# Altium footprint library PcbLib8.PcbLib: 1 footprints
Each footprint in its own frame and in the unit in brackets; x right, y up, seen from the top. Pads: shape width x height; smd on the part's side, far side on the other; paste and mask are expansions set on the pad; w line width, h text height; cw(c..) or ccw(c..) is an arc to the next point about the centre after c.
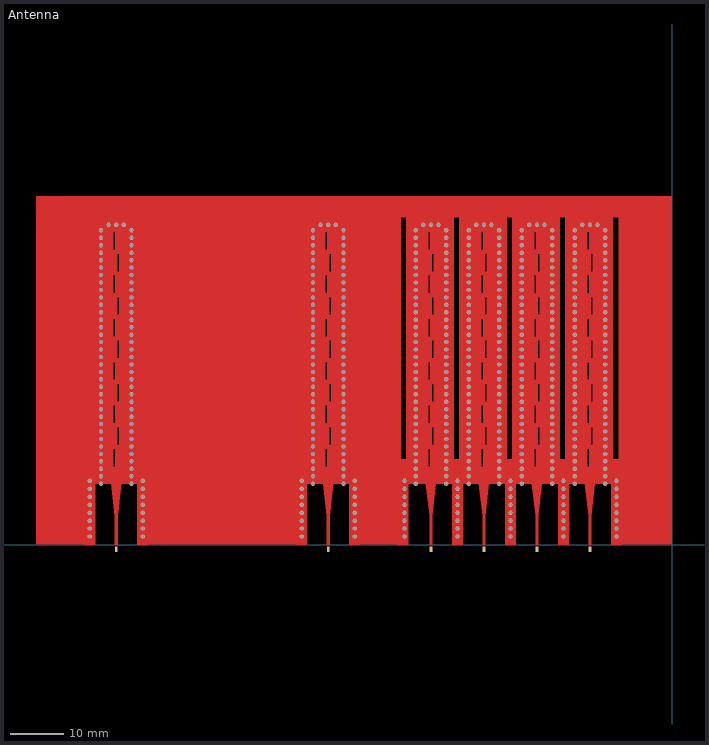
[diagram p0: the footprint, top view; thin cyan lines are the x and y axes]

## Antenna [mm] "24GHz"
pads (6):
  rect 0.5x1 smd: 1(-104.459,-0.9) 2(-64.634,-0.9) 3(-45.321,-0.9) 4(-35.365,-0.9) 5(-25.409,-0.9) 6(-15.453,-0.9)
via -50.299,1.5 diameter 0.8 hole 0.711
via -30.387,12 diameter 0.8 hole 0.711
via -20.431,12 diameter 0.8 hole 0.711
via -42.458,28.24 diameter 0.8 hole 0.711
via -48.183,22.64 diameter 0.8 hole 0.711
via -48.183,14.24 diameter 0.8 hole 0.711
via -42.458,57.64 diameter 0.8 hole 0.711
via -42.458,59.04 diameter 0.8 hole 0.711
via -43.889,60.1 diameter 0.8 hole 0.711
via -45.321,60.1 diameter 0.8 hole 0.711
via -46.752,60.1 diameter 0.8 hole 0.711
via -48.183,59.04 diameter 0.8 hole 0.711
via -48.183,57.64 diameter 0.8 hole 0.711
via -42.458,56.24 diameter 0.8 hole 0.711
via -42.458,54.84 diameter 0.8 hole 0.711
via -48.183,56.24 diameter 0.8 hole 0.711
via -48.183,54.84 diameter 0.8 hole 0.711
via -48.183,53.44 diameter 0.8 hole 0.711
via -48.183,52.04 diameter 0.8 hole 0.711
via -48.183,50.64 diameter 0.8 hole 0.711
via -48.183,49.24 diameter 0.8 hole 0.711
via -42.458,53.44 diameter 0.8 hole 0.711
via -42.458,52.04 diameter 0.8 hole 0.711
via -42.458,50.64 diameter 0.8 hole 0.711
via -42.458,49.24 diameter 0.8 hole 0.711
via -42.458,36.64 diameter 0.8 hole 0.711
via -42.458,38.04 diameter 0.8 hole 0.711
via -42.458,39.44 diameter 0.8 hole 0.711
via -42.458,40.84 diameter 0.8 hole 0.711
via -42.458,42.24 diameter 0.8 hole 0.711
via -42.458,43.64 diameter 0.8 hole 0.711
via -42.458,45.04 diameter 0.8 hole 0.711
via -42.458,46.44 diameter 0.8 hole 0.711
via -42.458,47.84 diameter 0.8 hole 0.711
via -48.183,47.84 diameter 0.8 hole 0.711
via -48.183,46.44 diameter 0.8 hole 0.711
via -48.183,45.04 diameter 0.8 hole 0.711
via -48.183,43.64 diameter 0.8 hole 0.711
via -48.183,42.24 diameter 0.8 hole 0.711
via -48.183,40.84 diameter 0.8 hole 0.711
via -48.183,39.44 diameter 0.8 hole 0.711
via -48.183,38.04 diameter 0.8 hole 0.711
via -48.183,36.64 diameter 0.8 hole 0.711
via -48.183,35.24 diameter 0.8 hole 0.711
via -48.183,33.84 diameter 0.8 hole 0.711
via -48.183,32.44 diameter 0.8 hole 0.711
via -48.183,31.04 diameter 0.8 hole 0.711
via -48.183,29.64 diameter 0.8 hole 0.711
via -48.183,28.24 diameter 0.8 hole 0.711
via -48.183,26.84 diameter 0.8 hole 0.711
via -42.458,35.24 diameter 0.8 hole 0.711
via -42.458,33.84 diameter 0.8 hole 0.711
via -42.458,32.44 diameter 0.8 hole 0.711
via -42.458,31.04 diameter 0.8 hole 0.711
via -42.458,29.64 diameter 0.8 hole 0.711
via -42.458,26.84 diameter 0.8 hole 0.711
via -42.458,25.44 diameter 0.8 hole 0.711
via -48.183,25.44 diameter 0.8 hole 0.711
via -48.183,24.04 diameter 0.8 hole 0.711
via -42.458,24.04 diameter 0.8 hole 0.711
via -42.458,22.64 diameter 0.8 hole 0.711
via -42.458,21.24 diameter 0.8 hole 0.711
via -48.183,21.24 diameter 0.8 hole 0.711
via -48.183,19.84 diameter 0.8 hole 0.711
via -42.458,19.84 diameter 0.8 hole 0.711
via -42.458,17.038 diameter 0.8 hole 0.711
via -42.458,18.44 diameter 0.8 hole 0.711
via -48.183,18.44 diameter 0.8 hole 0.711
via -48.183,17.038 diameter 0.8 hole 0.711
via -48.183,12.84 diameter 0.8 hole 0.711
via -48.183,15.64 diameter 0.8 hole 0.711
via -42.458,15.64 diameter 0.8 hole 0.711
via -42.458,14.24 diameter 0.8 hole 0.711
via -42.458,12.84 diameter 0.8 hole 0.711
via -42.458,11.44 diameter 0.8 hole 0.711
via -48.183,11.44 diameter 0.8 hole 0.711
via -50.299,12 diameter 0.8 hole 0.711
via -50.299,10.5 diameter 0.8 hole 0.711
via -50.299,9 diameter 0.8 hole 0.711
via -50.299,7.5 diameter 0.8 hole 0.711
via -50.299,6 diameter 0.8 hole 0.711
via -50.299,4.5 diameter 0.8 hole 0.711
via -50.299,3 diameter 0.8 hole 0.711
via -32.502,28.24 diameter 0.8 hole 0.711
via -38.227,22.64 diameter 0.8 hole 0.711
via -38.227,14.24 diameter 0.8 hole 0.711
via -32.502,57.64 diameter 0.8 hole 0.711
via -32.502,59.04 diameter 0.8 hole 0.711
via -33.933,60.1 diameter 0.8 hole 0.711
via -35.365,60.1 diameter 0.8 hole 0.711
via -36.796,60.1 diameter 0.8 hole 0.711
via -38.227,59.04 diameter 0.8 hole 0.711
via -38.227,57.64 diameter 0.8 hole 0.711
via -32.502,56.24 diameter 0.8 hole 0.711
via -32.502,54.84 diameter 0.8 hole 0.711
via -38.227,56.24 diameter 0.8 hole 0.711
via -38.227,54.84 diameter 0.8 hole 0.711
via -38.227,53.44 diameter 0.8 hole 0.711
via -38.227,52.04 diameter 0.8 hole 0.711
via -38.227,50.64 diameter 0.8 hole 0.711
via -38.227,49.24 diameter 0.8 hole 0.711
via -32.502,53.44 diameter 0.8 hole 0.711
via -32.502,52.04 diameter 0.8 hole 0.711
via -32.502,50.64 diameter 0.8 hole 0.711
via -32.502,49.24 diameter 0.8 hole 0.711
via -32.502,36.64 diameter 0.8 hole 0.711
via -32.502,38.04 diameter 0.8 hole 0.711
via -32.502,39.44 diameter 0.8 hole 0.711
via -32.502,40.84 diameter 0.8 hole 0.711
via -32.502,42.24 diameter 0.8 hole 0.711
via -32.502,43.64 diameter 0.8 hole 0.711
via -32.502,45.04 diameter 0.8 hole 0.711
via -32.502,46.44 diameter 0.8 hole 0.711
via -32.502,47.84 diameter 0.8 hole 0.711
via -38.227,47.84 diameter 0.8 hole 0.711
via -38.227,46.44 diameter 0.8 hole 0.711
via -38.227,45.04 diameter 0.8 hole 0.711
via -38.227,43.64 diameter 0.8 hole 0.711
via -38.227,42.24 diameter 0.8 hole 0.711
via -38.227,40.84 diameter 0.8 hole 0.711
via -38.227,39.44 diameter 0.8 hole 0.711
via -38.227,38.04 diameter 0.8 hole 0.711
via -38.227,36.64 diameter 0.8 hole 0.711
via -38.227,35.24 diameter 0.8 hole 0.711
via -38.227,33.84 diameter 0.8 hole 0.711
via -38.227,32.44 diameter 0.8 hole 0.711
via -38.227,31.04 diameter 0.8 hole 0.711
via -38.227,29.64 diameter 0.8 hole 0.711
via -38.227,28.24 diameter 0.8 hole 0.711
via -38.227,26.84 diameter 0.8 hole 0.711
via -32.502,35.24 diameter 0.8 hole 0.711
via -32.502,33.84 diameter 0.8 hole 0.711
via -32.502,32.44 diameter 0.8 hole 0.711
via -32.502,31.04 diameter 0.8 hole 0.711
via -32.502,29.64 diameter 0.8 hole 0.711
via -32.502,26.84 diameter 0.8 hole 0.711
via -32.502,25.44 diameter 0.8 hole 0.711
via -38.227,25.44 diameter 0.8 hole 0.711
via -38.227,24.04 diameter 0.8 hole 0.711
via -32.502,24.04 diameter 0.8 hole 0.711
via -32.502,22.64 diameter 0.8 hole 0.711
via -32.502,21.24 diameter 0.8 hole 0.711
via -38.227,21.24 diameter 0.8 hole 0.711
via -38.227,19.84 diameter 0.8 hole 0.711
via -32.502,19.84 diameter 0.8 hole 0.711
via -32.502,17.038 diameter 0.8 hole 0.711
via -32.502,18.44 diameter 0.8 hole 0.711
via -38.227,18.44 diameter 0.8 hole 0.711
via -38.227,17.038 diameter 0.8 hole 0.711
via -38.227,12.84 diameter 0.8 hole 0.711
via -38.227,15.64 diameter 0.8 hole 0.711
via -32.502,15.64 diameter 0.8 hole 0.711
via -32.502,14.24 diameter 0.8 hole 0.711
via -32.502,12.84 diameter 0.8 hole 0.711
via -32.502,11.44 diameter 0.8 hole 0.711
via -38.227,11.44 diameter 0.8 hole 0.711
via -40.343,10.5 diameter 0.8 hole 0.711
via -40.343,9 diameter 0.8 hole 0.711
via -40.343,7.5 diameter 0.8 hole 0.711
via -40.343,6 diameter 0.8 hole 0.711
via -40.343,4.5 diameter 0.8 hole 0.711
via -40.343,3 diameter 0.8 hole 0.711
via -40.343,1.5 diameter 0.8 hole 0.711
via -22.546,28.24 diameter 0.8 hole 0.711
via -28.271,22.64 diameter 0.8 hole 0.711
via -28.271,14.24 diameter 0.8 hole 0.711
via -22.546,57.64 diameter 0.8 hole 0.711
via -22.546,59.04 diameter 0.8 hole 0.711
via -23.977,60.1 diameter 0.8 hole 0.711
via -25.409,60.1 diameter 0.8 hole 0.711
via -26.84,60.1 diameter 0.8 hole 0.711
via -28.271,59.04 diameter 0.8 hole 0.711
via -28.271,57.64 diameter 0.8 hole 0.711
via -22.546,56.24 diameter 0.8 hole 0.711
via -22.546,54.84 diameter 0.8 hole 0.711
via -28.271,56.24 diameter 0.8 hole 0.711
via -28.271,54.84 diameter 0.8 hole 0.711
via -28.271,53.44 diameter 0.8 hole 0.711
via -28.271,52.04 diameter 0.8 hole 0.711
via -28.271,50.64 diameter 0.8 hole 0.711
via -28.271,49.24 diameter 0.8 hole 0.711
via -22.546,53.44 diameter 0.8 hole 0.711
via -22.546,52.04 diameter 0.8 hole 0.711
via -22.546,50.64 diameter 0.8 hole 0.711
via -22.546,49.24 diameter 0.8 hole 0.711
via -22.546,36.64 diameter 0.8 hole 0.711
via -22.546,38.04 diameter 0.8 hole 0.711
via -22.546,39.44 diameter 0.8 hole 0.711
via -22.546,40.84 diameter 0.8 hole 0.711
via -22.546,42.24 diameter 0.8 hole 0.711
via -22.546,43.64 diameter 0.8 hole 0.711
via -22.546,45.04 diameter 0.8 hole 0.711
via -22.546,46.44 diameter 0.8 hole 0.711
via -22.546,47.84 diameter 0.8 hole 0.711
via -28.271,47.84 diameter 0.8 hole 0.711
via -28.271,46.44 diameter 0.8 hole 0.711
via -28.271,45.04 diameter 0.8 hole 0.711
via -28.271,43.64 diameter 0.8 hole 0.711
via -28.271,42.24 diameter 0.8 hole 0.711
via -28.271,40.84 diameter 0.8 hole 0.711
via -28.271,39.44 diameter 0.8 hole 0.711
via -28.271,38.04 diameter 0.8 hole 0.711
via -28.271,36.64 diameter 0.8 hole 0.711
via -28.271,35.24 diameter 0.8 hole 0.711
via -28.271,33.84 diameter 0.8 hole 0.711
via -28.271,32.44 diameter 0.8 hole 0.711
via -28.271,31.04 diameter 0.8 hole 0.711
via -28.271,29.64 diameter 0.8 hole 0.711
via -28.271,28.24 diameter 0.8 hole 0.711
via -28.271,26.84 diameter 0.8 hole 0.711
via -22.546,35.24 diameter 0.8 hole 0.711
via -22.546,33.84 diameter 0.8 hole 0.711
via -22.546,32.44 diameter 0.8 hole 0.711
via -22.546,31.04 diameter 0.8 hole 0.711
via -22.546,29.64 diameter 0.8 hole 0.711
via -22.546,26.84 diameter 0.8 hole 0.711
via -22.546,25.44 diameter 0.8 hole 0.711
via -28.271,25.44 diameter 0.8 hole 0.711
via -28.271,24.04 diameter 0.8 hole 0.711
via -22.546,24.04 diameter 0.8 hole 0.711
via -22.546,22.64 diameter 0.8 hole 0.711
via -22.546,21.24 diameter 0.8 hole 0.711
via -28.271,21.24 diameter 0.8 hole 0.711
via -28.271,19.84 diameter 0.8 hole 0.711
via -22.546,19.84 diameter 0.8 hole 0.711
via -22.546,17.038 diameter 0.8 hole 0.711
via -22.546,18.44 diameter 0.8 hole 0.711
via -28.271,18.44 diameter 0.8 hole 0.711
via -28.271,17.038 diameter 0.8 hole 0.711
via -28.271,12.84 diameter 0.8 hole 0.711
via -28.271,15.64 diameter 0.8 hole 0.711
via -22.546,15.64 diameter 0.8 hole 0.711
via -22.546,14.24 diameter 0.8 hole 0.711
via -22.546,12.84 diameter 0.8 hole 0.711
via -22.546,11.44 diameter 0.8 hole 0.711
via -28.271,11.44 diameter 0.8 hole 0.711
via -30.387,10.5 diameter 0.8 hole 0.711
via -30.387,9 diameter 0.8 hole 0.711
via -30.387,7.5 diameter 0.8 hole 0.711
via -30.387,6 diameter 0.8 hole 0.711
via -30.387,4.5 diameter 0.8 hole 0.711
via -30.387,3 diameter 0.8 hole 0.711
via -30.387,1.5 diameter 0.8 hole 0.711
via -12.59,28.24 diameter 0.8 hole 0.711
via -18.315,22.64 diameter 0.8 hole 0.711
via -18.315,14.24 diameter 0.8 hole 0.711
via -10.475,7.5 diameter 0.8 hole 0.711
via -12.59,57.64 diameter 0.8 hole 0.711
via -12.59,59.04 diameter 0.8 hole 0.711
via -14.021,60.1 diameter 0.8 hole 0.711
via -15.453,60.1 diameter 0.8 hole 0.711
via -16.884,60.1 diameter 0.8 hole 0.711
via -18.315,59.04 diameter 0.8 hole 0.711
via -18.315,57.64 diameter 0.8 hole 0.711
via -12.59,56.24 diameter 0.8 hole 0.711
via -12.59,54.84 diameter 0.8 hole 0.711
via -18.315,56.24 diameter 0.8 hole 0.711
via -18.315,54.84 diameter 0.8 hole 0.711
via -18.315,53.44 diameter 0.8 hole 0.711
via -18.315,52.04 diameter 0.8 hole 0.711
via -18.315,50.64 diameter 0.8 hole 0.711
via -18.315,49.24 diameter 0.8 hole 0.711
via -12.59,53.44 diameter 0.8 hole 0.711
via -12.59,52.04 diameter 0.8 hole 0.711
via -12.59,50.64 diameter 0.8 hole 0.711
via -12.59,49.24 diameter 0.8 hole 0.711
via -12.59,36.64 diameter 0.8 hole 0.711
via -12.59,38.04 diameter 0.8 hole 0.711
via -12.59,39.44 diameter 0.8 hole 0.711
via -12.59,40.84 diameter 0.8 hole 0.711
via -12.59,42.24 diameter 0.8 hole 0.711
via -12.59,43.64 diameter 0.8 hole 0.711
via -12.59,45.04 diameter 0.8 hole 0.711
via -12.59,46.44 diameter 0.8 hole 0.711
via -12.59,47.84 diameter 0.8 hole 0.711
via -18.315,47.84 diameter 0.8 hole 0.711
via -18.315,46.44 diameter 0.8 hole 0.711
via -18.315,45.04 diameter 0.8 hole 0.711
via -18.315,43.64 diameter 0.8 hole 0.711
via -18.315,42.24 diameter 0.8 hole 0.711
via -18.315,40.84 diameter 0.8 hole 0.711
via -18.315,39.44 diameter 0.8 hole 0.711
via -18.315,38.04 diameter 0.8 hole 0.711
via -18.315,36.64 diameter 0.8 hole 0.711
via -18.315,35.24 diameter 0.8 hole 0.711
via -18.315,33.84 diameter 0.8 hole 0.711
via -18.315,32.44 diameter 0.8 hole 0.711
via -18.315,31.04 diameter 0.8 hole 0.711
via -18.315,29.64 diameter 0.8 hole 0.711
via -18.315,28.24 diameter 0.8 hole 0.711
via -18.315,26.84 diameter 0.8 hole 0.711
via -12.59,35.24 diameter 0.8 hole 0.711
via -12.59,33.84 diameter 0.8 hole 0.711
via -12.59,32.44 diameter 0.8 hole 0.711
via -12.59,31.04 diameter 0.8 hole 0.711
via -12.59,29.64 diameter 0.8 hole 0.711
via -12.59,26.84 diameter 0.8 hole 0.711
via -12.59,25.44 diameter 0.8 hole 0.711
via -18.315,25.44 diameter 0.8 hole 0.711
via -18.315,24.04 diameter 0.8 hole 0.711
via -12.59,24.04 diameter 0.8 hole 0.711
via -12.59,22.64 diameter 0.8 hole 0.711
via -12.59,21.24 diameter 0.8 hole 0.711
via -18.315,21.24 diameter 0.8 hole 0.711
via -18.315,19.84 diameter 0.8 hole 0.711
via -12.59,19.84 diameter 0.8 hole 0.711
via -12.59,17.038 diameter 0.8 hole 0.711
via -12.59,18.44 diameter 0.8 hole 0.711
via -18.315,18.44 diameter 0.8 hole 0.711
via -18.315,17.038 diameter 0.8 hole 0.711
via -18.315,12.84 diameter 0.8 hole 0.711
via -18.315,15.64 diameter 0.8 hole 0.711
via -12.59,15.64 diameter 0.8 hole 0.711
via -12.59,14.24 diameter 0.8 hole 0.711
via -12.59,12.84 diameter 0.8 hole 0.711
via -10.475,6 diameter 0.8 hole 0.711
via -10.475,9 diameter 0.8 hole 0.711
via -10.475,10.5 diameter 0.8 hole 0.711
via -10.475,12 diameter 0.8 hole 0.711
via -12.59,11.44 diameter 0.8 hole 0.711
via -18.315,11.44 diameter 0.8 hole 0.711
via -20.431,10.5 diameter 0.8 hole 0.711
via -20.431,9 diameter 0.8 hole 0.711
via -20.431,7.5 diameter 0.8 hole 0.711
via -20.431,6 diameter 0.8 hole 0.711
via -20.431,4.5 diameter 0.8 hole 0.711
via -20.431,3 diameter 0.8 hole 0.711
via -20.431,1.5 diameter 0.8 hole 0.711
via -10.475,4.5 diameter 0.8 hole 0.711
via -10.475,3 diameter 0.8 hole 0.711
via -10.475,1.5 diameter 0.8 hole 0.711
via -40.343,12 diameter 0.8 hole 0.711
via -59.656,12 diameter 0.8 hole 0.711
via -59.656,1.5 diameter 0.8 hole 0.711
via -59.656,3 diameter 0.8 hole 0.711
via -59.656,4.5 diameter 0.8 hole 0.711
via -59.656,6 diameter 0.8 hole 0.711
via -59.656,7.5 diameter 0.8 hole 0.711
via -59.656,9 diameter 0.8 hole 0.711
via -59.656,10.5 diameter 0.8 hole 0.711
via -69.612,3 diameter 0.8 hole 0.711
via -69.612,4.5 diameter 0.8 hole 0.711
via -69.612,6 diameter 0.8 hole 0.711
via -69.612,7.5 diameter 0.8 hole 0.711
via -69.612,9 diameter 0.8 hole 0.711
via -69.612,10.5 diameter 0.8 hole 0.711
via -69.612,12 diameter 0.8 hole 0.711
via -67.496,11.44 diameter 0.8 hole 0.711
via -61.771,11.44 diameter 0.8 hole 0.711
via -61.771,12.84 diameter 0.8 hole 0.711
via -61.771,14.24 diameter 0.8 hole 0.711
via -61.771,15.64 diameter 0.8 hole 0.711
via -67.496,15.64 diameter 0.8 hole 0.711
via -67.496,12.84 diameter 0.8 hole 0.711
via -67.496,17.038 diameter 0.8 hole 0.711
via -67.496,18.44 diameter 0.8 hole 0.711
via -61.771,18.44 diameter 0.8 hole 0.711
via -61.771,17.038 diameter 0.8 hole 0.711
via -61.771,19.84 diameter 0.8 hole 0.711
via -67.496,19.84 diameter 0.8 hole 0.711
via -67.496,21.24 diameter 0.8 hole 0.711
via -61.771,21.24 diameter 0.8 hole 0.711
via -61.771,22.64 diameter 0.8 hole 0.711
via -61.771,24.04 diameter 0.8 hole 0.711
via -67.496,24.04 diameter 0.8 hole 0.711
via -67.496,25.44 diameter 0.8 hole 0.711
via -61.771,25.44 diameter 0.8 hole 0.711
via -61.771,26.84 diameter 0.8 hole 0.711
via -61.771,29.64 diameter 0.8 hole 0.711
via -61.771,31.04 diameter 0.8 hole 0.711
via -61.771,32.44 diameter 0.8 hole 0.711
via -61.771,33.84 diameter 0.8 hole 0.711
via -61.771,35.24 diameter 0.8 hole 0.711
via -67.496,26.84 diameter 0.8 hole 0.711
via -67.496,28.24 diameter 0.8 hole 0.711
via -67.496,29.64 diameter 0.8 hole 0.711
via -67.496,31.04 diameter 0.8 hole 0.711
via -67.496,32.44 diameter 0.8 hole 0.711
via -67.496,33.84 diameter 0.8 hole 0.711
via -67.496,35.24 diameter 0.8 hole 0.711
via -67.496,36.64 diameter 0.8 hole 0.711
via -67.496,38.04 diameter 0.8 hole 0.711
via -67.496,39.44 diameter 0.8 hole 0.711
via -67.496,40.84 diameter 0.8 hole 0.711
via -67.496,42.24 diameter 0.8 hole 0.711
via -67.496,43.64 diameter 0.8 hole 0.711
via -67.496,45.04 diameter 0.8 hole 0.711
via -67.496,46.44 diameter 0.8 hole 0.711
via -67.496,47.84 diameter 0.8 hole 0.711
via -61.771,47.84 diameter 0.8 hole 0.711
via -61.771,46.44 diameter 0.8 hole 0.711
via -61.771,45.04 diameter 0.8 hole 0.711
via -61.771,43.64 diameter 0.8 hole 0.711
via -61.771,42.24 diameter 0.8 hole 0.711
via -61.771,40.84 diameter 0.8 hole 0.711
via -61.771,39.44 diameter 0.8 hole 0.711
via -61.771,38.04 diameter 0.8 hole 0.711
via -61.771,36.64 diameter 0.8 hole 0.711
via -61.771,49.24 diameter 0.8 hole 0.711
via -61.771,50.64 diameter 0.8 hole 0.711
via -61.771,52.04 diameter 0.8 hole 0.711
via -61.771,53.44 diameter 0.8 hole 0.711
via -67.496,49.24 diameter 0.8 hole 0.711
via -67.496,50.64 diameter 0.8 hole 0.711
via -67.496,52.04 diameter 0.8 hole 0.711
via -67.496,53.44 diameter 0.8 hole 0.711
via -67.496,54.84 diameter 0.8 hole 0.711
via -67.496,56.24 diameter 0.8 hole 0.711
via -61.771,54.84 diameter 0.8 hole 0.711
via -61.771,56.24 diameter 0.8 hole 0.711
via -67.496,57.64 diameter 0.8 hole 0.711
via -67.496,59.04 diameter 0.8 hole 0.711
via -66.065,60.1 diameter 0.8 hole 0.711
via -64.634,60.1 diameter 0.8 hole 0.711
via -63.202,60.1 diameter 0.8 hole 0.711
via -61.771,59.04 diameter 0.8 hole 0.711
via -61.771,57.64 diameter 0.8 hole 0.711
via -67.496,14.24 diameter 0.8 hole 0.711
via -67.496,22.64 diameter 0.8 hole 0.711
via -61.771,28.24 diameter 0.8 hole 0.711
via -69.612,1.5 diameter 0.8 hole 0.711
via -99.481,12 diameter 0.8 hole 0.711
via -99.481,1.5 diameter 0.8 hole 0.711
via -99.481,3 diameter 0.8 hole 0.711
via -99.481,4.5 diameter 0.8 hole 0.711
via -99.481,6 diameter 0.8 hole 0.711
via -99.481,7.5 diameter 0.8 hole 0.711
via -99.481,9 diameter 0.8 hole 0.711
via -99.481,10.5 diameter 0.8 hole 0.711
via -109.437,3 diameter 0.8 hole 0.711
via -109.437,4.5 diameter 0.8 hole 0.711
via -109.437,6 diameter 0.8 hole 0.711
via -109.437,7.5 diameter 0.8 hole 0.711
via -109.437,9 diameter 0.8 hole 0.711
via -109.437,10.5 diameter 0.8 hole 0.711
via -109.437,12 diameter 0.8 hole 0.711
via -107.321,11.44 diameter 0.8 hole 0.711
via -101.596,11.44 diameter 0.8 hole 0.711
via -101.596,12.84 diameter 0.8 hole 0.711
via -101.596,14.24 diameter 0.8 hole 0.711
via -101.596,15.64 diameter 0.8 hole 0.711
via -107.321,15.64 diameter 0.8 hole 0.711
via -107.321,12.84 diameter 0.8 hole 0.711
via -107.321,17.038 diameter 0.8 hole 0.711
via -107.321,18.44 diameter 0.8 hole 0.711
via -101.596,18.44 diameter 0.8 hole 0.711
via -101.596,17.038 diameter 0.8 hole 0.711
via -101.596,19.84 diameter 0.8 hole 0.711
via -107.321,19.84 diameter 0.8 hole 0.711
via -107.321,21.24 diameter 0.8 hole 0.711
via -101.596,21.24 diameter 0.8 hole 0.711
via -101.596,22.64 diameter 0.8 hole 0.711
via -101.596,24.04 diameter 0.8 hole 0.711
via -107.321,24.04 diameter 0.8 hole 0.711
via -107.321,25.44 diameter 0.8 hole 0.711
via -101.596,25.44 diameter 0.8 hole 0.711
via -101.596,26.84 diameter 0.8 hole 0.711
via -101.596,29.64 diameter 0.8 hole 0.711
via -101.596,31.04 diameter 0.8 hole 0.711
via -101.596,32.44 diameter 0.8 hole 0.711
via -101.596,33.84 diameter 0.8 hole 0.711
via -101.596,35.24 diameter 0.8 hole 0.711
via -107.321,26.84 diameter 0.8 hole 0.711
via -107.321,28.24 diameter 0.8 hole 0.711
via -107.321,29.64 diameter 0.8 hole 0.711
via -107.321,31.04 diameter 0.8 hole 0.711
via -107.321,32.44 diameter 0.8 hole 0.711
via -107.321,33.84 diameter 0.8 hole 0.711
via -107.321,35.24 diameter 0.8 hole 0.711
via -107.321,36.64 diameter 0.8 hole 0.711
via -107.321,38.04 diameter 0.8 hole 0.711
via -107.321,39.44 diameter 0.8 hole 0.711
via -107.321,40.84 diameter 0.8 hole 0.711
via -107.321,42.24 diameter 0.8 hole 0.711
via -107.321,43.64 diameter 0.8 hole 0.711
via -107.321,45.04 diameter 0.8 hole 0.711
via -107.321,46.44 diameter 0.8 hole 0.711
via -107.321,47.84 diameter 0.8 hole 0.711
via -101.596,47.84 diameter 0.8 hole 0.711
via -101.596,46.44 diameter 0.8 hole 0.711
via -101.596,45.04 diameter 0.8 hole 0.711
via -101.596,43.64 diameter 0.8 hole 0.711
via -101.596,42.24 diameter 0.8 hole 0.711
via -101.596,40.84 diameter 0.8 hole 0.711
via -101.596,39.44 diameter 0.8 hole 0.711
via -101.596,38.04 diameter 0.8 hole 0.711
via -101.596,36.64 diameter 0.8 hole 0.711
via -101.596,49.24 diameter 0.8 hole 0.711
via -101.596,50.64 diameter 0.8 hole 0.711
via -101.596,52.04 diameter 0.8 hole 0.711
via -101.596,53.44 diameter 0.8 hole 0.711
via -107.321,49.24 diameter 0.8 hole 0.711
via -107.321,50.64 diameter 0.8 hole 0.711
via -107.321,52.04 diameter 0.8 hole 0.711
via -107.321,53.44 diameter 0.8 hole 0.711
via -107.321,54.84 diameter 0.8 hole 0.711
via -107.321,56.24 diameter 0.8 hole 0.711
via -101.596,54.84 diameter 0.8 hole 0.711
via -101.596,56.24 diameter 0.8 hole 0.711
via -107.321,57.64 diameter 0.8 hole 0.711
via -107.321,59.04 diameter 0.8 hole 0.711
via -105.89,60.1 diameter 0.8 hole 0.711
via -104.459,60.1 diameter 0.8 hole 0.711
via -103.027,60.1 diameter 0.8 hole 0.711
via -101.596,59.04 diameter 0.8 hole 0.711
via -101.596,57.64 diameter 0.8 hole 0.711
via -107.321,14.24 diameter 0.8 hole 0.711
via -107.321,22.64 diameter 0.8 hole 0.711
via -101.596,28.24 diameter 0.8 hole 0.711
via -109.437,1.5 diameter 0.8 hole 0.711
Top Layer:
  rectangle: -74.05,60.65 -58.975,63.575
  rectangle: -15.623,58.73 -11.131,61.5
  rectangle: -20.087,58.73 -15.623,61.5
  rectangle: -119.562,0 -110.825,65.5
  rectangle: -49.955,61.5 -0.6,65.5
  rectangle: -8.575,11.4 -4.775,64.2
  rectangle: -11.475,0 -0.6,11.44
  rectangle: -11.475,11.44 -0.6,12.5
  rectangle: -10.131,13.35 0,63.95
  rectangle: -0.6,0 0,0.175
  rectangle: -8.6,0 0,65.5
  rectangle: -54.551,11.496 -50.955,20.025
  rectangle: -119.562,0 -108.437,65.5
  rectangle: -108.437,61.5 -40.999,65.5
  rectangle: -98.481,0 -69.268,61.5
  rectangle: -100.137,15.1 -89.3,61.5
  rectangle: -60.312,20.025 -50.955,61.5
  rectangle: -60.312,0 -51.611,20.025
  rectangle: -73.7,12.9 -66.325,60.275
  rectangle: -62.625,12.8 -57.275,61.325
  rectangle: -49.375,13.175 -47.55,63.3
  rectangle: -43.05,13.575 -41.625,61.15
  rectangle: -39.225,13 -37.025,62.25
  rectangle: -33.575,13.9 -31.575,63.25
  rectangle: -29.375,13.325 -27.075,62.15
  rectangle: -23.625,14 -21.525,63.1
  rectangle: -19.125,13.375 -17.2,62.525
  rectangle: -18.4,59.475 -13.1,62.525
  rectangle: -13.475,13 -11.6,61.9
  rectangle: -108.8,13.225 -106.2,62.7
  rectangle: -102.5,13.275 -99.625,63
  rectangle: -28.356,59.475 -23.056,62.525
  rectangle: -30.043,58.73 -25.579,61.5
  rectangle: -25.579,58.73 -21.087,61.5
  rectangle: -48.268,59.475 -42.968,62.525
  rectangle: -49.955,58.73 -45.491,61.5
  rectangle: -45.491,58.73 -40.999,61.5
  rectangle: -38.312,59.475 -33.012,62.525
  rectangle: -39.999,58.73 -35.535,61.5
  rectangle: -35.535,58.73 -31.043,61.5
  rectangle: -67.581,59.475 -62.281,62.525
  rectangle: -69.268,58.73 -64.804,61.5
  rectangle: -64.804,58.73 -60.312,61.5
  rectangle: -107.406,59.475 -102.106,62.525
  rectangle: -109.093,58.73 -104.629,61.5
  rectangle: -104.629,58.73 -100.137,61.5
  region: -15.203,0 -15.703,0 -15.703,5.4 -16.39,11.44 -19.743,11.44 -20.087,16 -20.087,61.5 -15.998,58.73 -15.998,14.655 -14.515,11.44 -15.203,5.4
  region: -15.203,0 -15.703,0 -15.703,5.4 -16.39,11.44 -15.998,14.655 -15.623,14.655 -15.623,18.005 -14.913,18.728 -14.913,22.078 -15.623,22.8 -15.623,26.15 -14.913,26.873 -14.913,30.222 -15.623,30.945 -15.623,34.295 -14.913,35.018 -14.913,38.368 -15.623,39.09 -15.623,42.44 -14.913,43.163 -14.913,46.513 -15.623,47.235 -15.623,50.585 -14.913,51.308 -14.913,54.658 -15.623,55.38 -15.623,58.73 -11.131,61.5 -11.131,16 -11.475,11.44 -14.515,11.44 -15.203,5.4
  region: -15.998,55.38 -15.998,50.585 -15.623,50.585 -15.623,47.235 -15.998,47.235 -15.998,42.44 -15.623,42.44 -15.623,39.09 -15.998,39.09 -15.998,34.295 -15.623,34.295 -15.623,30.945 -15.998,30.945 -15.998,26.15 -15.623,26.15 -15.623,22.8 -15.998,22.8 -15.998,18.005 -15.623,18.005 -15.623,14.655 -14.913,18.728 -15.288,18.728 -15.288,22.078 -14.913,22.078 -14.913,26.873 -15.288,26.873 -15.288,30.222 -14.913,30.222 -14.913,35.018 -15.288,35.018 -15.288,38.368 -14.913,38.368 -14.913,43.163 -15.288,43.163 -15.288,46.513 -14.913,46.513 -14.913,51.308 -15.288,51.308 -15.288,54.658 -14.913,54.658 -15.623,55.38
  region: -6.505,11.551 -6.566,11.44 -9.475,11.44 -9.475,0 -11.475,0 -11.475,11.44 -14.374,11.44 -14.431,11.553 -11.131,16 -9.325,16
  region: -54.581,11.551 -54.52,11.44 -51.611,11.44 -51.611,0 -49.611,0 -49.611,11.44 -46.712,11.44 -46.655,11.553 -49.955,16 -51.761,16
  region: -16.461,11.551 -16.522,11.44 -19.431,11.44 -19.431,0 -21.431,0 -21.431,11.44 -24.33,11.44 -24.387,11.553 -21.087,16 -19.281,16
  region: -26.417,11.551 -26.478,11.44 -29.387,11.44 -29.387,0 -31.387,0 -31.387,11.44 -34.286,11.44 -34.343,11.553 -31.043,16 -29.237,16
  region: -36.373,11.551 -36.434,11.44 -39.343,11.44 -39.343,0 -41.343,0 -41.343,11.44 -44.242,11.44 -44.299,11.553 -40.999,16 -39.193,16
  region: -55.686,11.551 -55.747,11.44 -58.656,11.44 -58.656,0 -60.656,0 -60.656,11.44 -63.555,11.44 -63.612,11.553 -60.312,16 -58.506,16
  region: -95.511,11.551 -95.572,11.44 -98.481,11.44 -98.481,0 -100.481,0 -100.481,11.44 -103.38,11.44 -103.437,11.553 -100.137,16 -98.331,16
  region: -113.407,11.551 -113.346,11.44 -110.437,11.44 -110.437,0 -108.437,0 -108.437,11.44 -105.538,11.44 -105.481,11.553 -108.781,16 -110.587,16
  region: -73.582,11.551 -73.521,11.44 -70.612,11.44 -70.612,0 -68.612,0 -68.612,11.44 -65.713,11.44 -65.656,11.553 -68.956,16 -70.762,16
  region: -25.954,55.38 -25.954,50.585 -25.579,50.585 -25.579,47.235 -25.954,47.235 -25.954,42.44 -25.579,42.44 -25.579,39.09 -25.954,39.09 -25.954,34.295 -25.579,34.295 -25.579,30.945 -25.954,30.945 -25.954,26.15 -25.579,26.15 -25.579,22.8 -25.954,22.8 -25.954,18.005 -25.579,18.005 -25.579,14.655 -24.869,18.728 -25.244,18.728 -25.244,22.078 -24.869,22.078 -24.869,26.873 -25.244,26.873 -25.244,30.222 -24.869,30.222 -24.869,35.018 -25.244,35.018 -25.244,38.368 -24.869,38.368 -24.869,43.163 -25.244,43.163 -25.244,46.513 -24.869,46.513 -24.869,51.308 -25.244,51.308 -25.244,54.658 -24.869,54.658 -25.579,55.38
  region: -25.159,0 -25.659,0 -25.659,5.4 -26.346,11.44 -25.954,14.655 -25.579,14.655 -25.579,18.005 -24.869,18.728 -24.869,22.078 -25.579,22.8 -25.579,26.15 -24.869,26.873 -24.869,30.222 -25.579,30.945 -25.579,34.295 -24.869,35.018 -24.869,38.368 -25.579,39.09 -25.579,42.44 -24.869,43.163 -24.869,46.513 -25.579,47.235 -25.579,50.585 -24.869,51.308 -24.869,54.658 -25.579,55.38 -25.579,58.73 -21.087,61.5 -21.087,16 -21.431,11.44 -24.471,11.44 -25.159,5.4
  region: -25.159,0 -25.659,0 -25.659,5.4 -26.346,11.44 -29.699,11.44 -30.043,16 -30.043,61.5 -25.954,58.73 -25.954,14.655 -24.471,11.44 -25.159,5.4
  region: -45.866,55.38 -45.866,50.585 -45.491,50.585 -45.491,47.235 -45.866,47.235 -45.866,42.44 -45.491,42.44 -45.491,39.09 -45.866,39.09 -45.866,34.295 -45.491,34.295 -45.491,30.945 -45.866,30.945 -45.866,26.15 -45.491,26.15 -45.491,22.8 -45.866,22.8 -45.866,18.005 -45.491,18.005 -45.491,14.655 -44.781,18.728 -45.156,18.728 -45.156,22.078 -44.781,22.078 -44.781,26.873 -45.156,26.873 -45.156,30.222 -44.781,30.222 -44.781,35.018 -45.156,35.018 -45.156,38.368 -44.781,38.368 -44.781,43.163 -45.156,43.163 -45.156,46.513 -44.781,46.513 -44.781,51.308 -45.156,51.308 -45.156,54.658 -44.781,54.658 -45.491,55.38
  region: -45.071,0 -45.571,0 -45.571,5.4 -46.258,11.44 -45.866,14.655 -45.491,14.655 -45.491,18.005 -44.781,18.728 -44.781,22.078 -45.491,22.8 -45.491,26.15 -44.781,26.873 -44.781,30.222 -45.491,30.945 -45.491,34.295 -44.781,35.018 -44.781,38.368 -45.491,39.09 -45.491,42.44 -44.781,43.163 -44.781,46.513 -45.491,47.235 -45.491,50.585 -44.781,51.308 -44.781,54.658 -45.491,55.38 -45.491,58.73 -40.999,61.5 -40.999,16 -41.343,11.44 -44.383,11.44 -45.071,5.4
  region: -45.071,0 -45.571,0 -45.571,5.4 -46.258,11.44 -49.611,11.44 -49.955,16 -49.955,61.5 -45.866,58.73 -45.866,14.655 -44.383,11.44 -45.071,5.4
  region: -35.91,55.38 -35.91,50.585 -35.535,50.585 -35.535,47.235 -35.91,47.235 -35.91,42.44 -35.535,42.44 -35.535,39.09 -35.91,39.09 -35.91,34.295 -35.535,34.295 -35.535,30.945 -35.91,30.945 -35.91,26.15 -35.535,26.15 -35.535,22.8 -35.91,22.8 -35.91,18.005 -35.535,18.005 -35.535,14.655 -34.825,18.728 -35.2,18.728 -35.2,22.078 -34.825,22.078 -34.825,26.873 -35.2,26.873 -35.2,30.222 -34.825,30.222 -34.825,35.018 -35.2,35.018 -35.2,38.368 -34.825,38.368 -34.825,43.163 -35.2,43.163 -35.2,46.513 -34.825,46.513 -34.825,51.308 -35.2,51.308 -35.2,54.658 -34.825,54.658 -35.535,55.38
  region: -35.115,0 -35.615,0 -35.615,5.4 -36.302,11.44 -35.91,14.655 -35.535,14.655 -35.535,18.005 -34.825,18.728 -34.825,22.078 -35.535,22.8 -35.535,26.15 -34.825,26.873 -34.825,30.222 -35.535,30.945 -35.535,34.295 -34.825,35.018 -34.825,38.368 -35.535,39.09 -35.535,42.44 -34.825,43.163 -34.825,46.513 -35.535,47.235 -35.535,50.585 -34.825,51.308 -34.825,54.658 -35.535,55.38 -35.535,58.73 -31.043,61.5 -31.043,16 -31.387,11.44 -34.427,11.44 -35.115,5.4
  region: -35.115,0 -35.615,0 -35.615,5.4 -36.302,11.44 -39.655,11.44 -39.999,16 -39.999,61.5 -35.91,58.73 -35.91,14.655 -34.427,11.44 -35.115,5.4
  region: -65.179,55.38 -65.179,50.585 -64.804,50.585 -64.804,47.235 -65.179,47.235 -65.179,42.44 -64.804,42.44 -64.804,39.09 -65.179,39.09 -65.179,34.295 -64.804,34.295 -64.804,30.945 -65.179,30.945 -65.179,26.15 -64.804,26.15 -64.804,22.8 -65.179,22.8 -65.179,18.005 -64.804,18.005 -64.804,14.655 -64.094,18.728 -64.469,18.728 -64.469,22.078 -64.094,22.078 -64.094,26.873 -64.469,26.873 -64.469,30.222 -64.094,30.222 -64.094,35.018 -64.469,35.018 -64.469,38.368 -64.094,38.368 -64.094,43.163 -64.469,43.163 -64.469,46.513 -64.094,46.513 -64.094,51.308 -64.469,51.308 -64.469,54.658 -64.094,54.658 -64.804,55.38
  region: -64.384,0 -64.884,0 -64.884,5.4 -65.571,11.44 -65.179,14.655 -64.804,14.655 -64.804,18.005 -64.094,18.728 -64.094,22.078 -64.804,22.8 -64.804,26.15 -64.094,26.873 -64.094,30.222 -64.804,30.945 -64.804,34.295 -64.094,35.018 -64.094,38.368 -64.804,39.09 -64.804,42.44 -64.094,43.163 -64.094,46.513 -64.804,47.235 -64.804,50.585 -64.094,51.308 -64.094,54.658 -64.804,55.38 -64.804,58.73 -60.312,61.5 -60.312,16 -60.656,11.44 -63.696,11.44 -64.384,5.4
  region: -64.384,0 -64.884,0 -64.884,5.4 -65.571,11.44 -68.925,11.44 -69.268,16 -69.268,61.5 -65.179,58.73 -65.179,14.655 -63.696,11.44 -64.384,5.4
  region: -105.004,55.38 -105.004,50.585 -104.629,50.585 -104.629,47.235 -105.004,47.235 -105.004,42.44 -104.629,42.44 -104.629,39.09 -105.004,39.09 -105.004,34.295 -104.629,34.295 -104.629,30.945 -105.004,30.945 -105.004,26.15 -104.629,26.15 -104.629,22.8 -105.004,22.8 -105.004,18.005 -104.629,18.005 -104.629,14.655 -103.919,18.728 -104.294,18.728 -104.294,22.078 -103.919,22.078 -103.919,26.873 -104.294,26.873 -104.294,30.222 -103.919,30.222 -103.919,35.018 -104.294,35.018 -104.294,38.368 -103.919,38.368 -103.919,43.163 -104.294,43.163 -104.294,46.513 -103.919,46.513 -103.919,51.308 -104.294,51.308 -104.294,54.658 -103.919,54.658 -104.629,55.38
  region: -104.209,0 -104.709,0 -104.709,5.4 -105.396,11.44 -105.004,14.655 -104.629,14.655 -104.629,18.005 -103.919,18.728 -103.919,22.078 -104.629,22.8 -104.629,26.15 -103.919,26.873 -103.919,30.222 -104.629,30.945 -104.629,34.295 -103.919,35.018 -103.919,38.368 -104.629,39.09 -104.629,42.44 -103.919,43.163 -103.919,46.513 -104.629,47.235 -104.629,50.585 -103.919,51.308 -103.919,54.658 -104.629,55.38 -104.629,58.73 -100.137,61.5 -100.137,16 -100.481,11.44 -103.521,11.44 -104.209,5.4
  region: -104.209,0 -104.709,0 -104.709,5.4 -105.396,11.44 -108.75,11.44 -109.093,16 -109.093,61.5 -105.004,58.73 -105.004,14.655 -103.521,11.44 -104.209,5.4